# EAGLE library part TPS54160A (library texas)
DC/DC Converter SWIFT, 1.5-A, 60-V, Step-Down
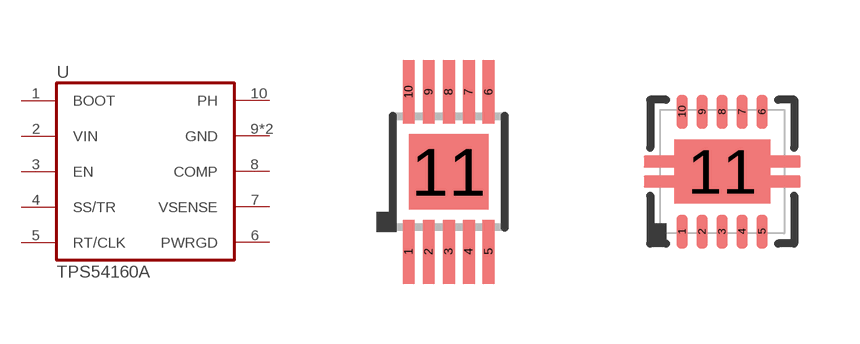
[diagram p81: symbol with the pads of MSOP10-POWERPAD; footprints MSOP10-POWERPAD, SON10]

Designator prefix U

## TPS54160ADGQ  [MSOP10-POWERPAD]
1  BOOT  in
2  VIN  in
3  EN  in
4  SS/TR  in
5  RT/CLK  in
6  PWRGD  oc
7  VSENSE  in
8  COMP  out
9  GND  in
10  PH  out
11  GND  in

## TPS54160ADRC  [SON10]
Pads as for MSOP10-POWERPAD

## Footprint MSOP10-POWERPAD (pad centres in mm)
MSOP-PowerPAD 10 DGQ Package, Texas Instruments
smd 0.3 x 1.6: 1 -1,-2; 2 -0.5,-2; 3 0,-2; 4 0.5,-2; 5 1,-2; 6 1,2; 7 0.5,2; 8 0,2; 9 -0.5,2; 10 -1,2
smd 1.98 x 1.88: 11 0,0

## Footprint SON10 (pad centres in mm)
SON 10 DRC (S-PVSON-N10)
smd 0.28 x 0.85: 1 -1,-1.5; 2 -0.5,-1.5; 3 0,-1.5; 4 0.5,-1.5; 5 1,-1.5; 6 1,1.5; 7 0.5,1.5; 8 0,1.5; 9 -0.5,1.5; 10 -1,1.5
smd 2.4 x 1.6: 11 0,0